# EAGLE library part SMALL_MAVRIC_IMU_MPU-9250 (library small_mavric)
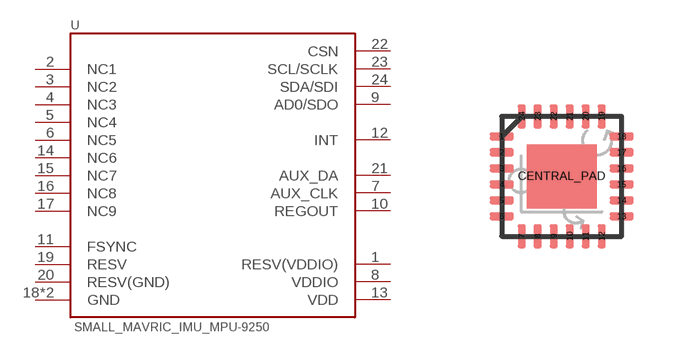
[diagram p6: symbol with the pads of SMALL_MAVRIC_SMALL_MAVRIC_QFN-24_3.0X3.0MM; footprint SMALL_MAVRIC_SMALL_MAVRIC_QFN-24_3.0X3.0MM]

Designator prefix U

## SMALL_MAVRIC_IMU_MPU-9250 (DISTRIBUTOR: digikey; ORDER_CODE: 1428-1019-1-ND; PLACE_PART: YES)  [SMALL_MAVRIC_SMALL_MAVRIC_QFN-24_3.0X3.0MM]
1  RESV(VDDIO)  pas
2  NC1  pas
3  NC2  pas
4  NC3  pas
5  NC4  pas
6  NC5  pas
7  AUX_CLK  oc
8  VDDIO  pwr
9  AD0/SDO
10  REGOUT  pas
11  FSYNC
12  INT  oc
13  VDD  pwr
14  NC6  pas
15  NC7  pas
16  NC8  pas
17  NC9  pas
18  GND  pwr
19  RESV  pas
20  RESV(GND)  pas
21  AUX_DA  oc
22  CSN  in
23  SCL/SCLK  in
24  SDA/SDI  in
CENTRAL_PAD  GND  pwr

## Footprint SMALL_MAVRIC_SMALL_MAVRIC_QFN-24_3.0X3.0MM (pad centres in mm)
smd 0.6 x 0.2: 1 -1.5,1; 2 -1.5,0.6; 3 -1.5,0.2; 4 -1.5,-0.2; 5 -1.5,-0.6; 6 -1.5,-1; 13 1.5,-1; 14 1.5,-0.6; 15 1.5,-0.2; 16 1.5,0.2; 17 1.5,0.6; 18 1.5,1
smd 0.2 x 0.6: 7 -1,-1.5; 8 -0.6,-1.5; 9 -0.2,-1.5; 10 0.2,-1.5; 11 0.6,-1.5; 12 1,-1.5; 19 1,1.5; 20 0.6,1.5; 21 0.2,1.5; 22 -0.2,1.5; 23 -0.6,1.5; 24 -1,1.5
smd 1.75 x 1.6: CENTRAL_PAD 0,0